# Altium schematic symbol library MicroController_DevBoard.SchLib: 2 symbols
Pins are listed as number, name and electrical type; pins without a type are passive.

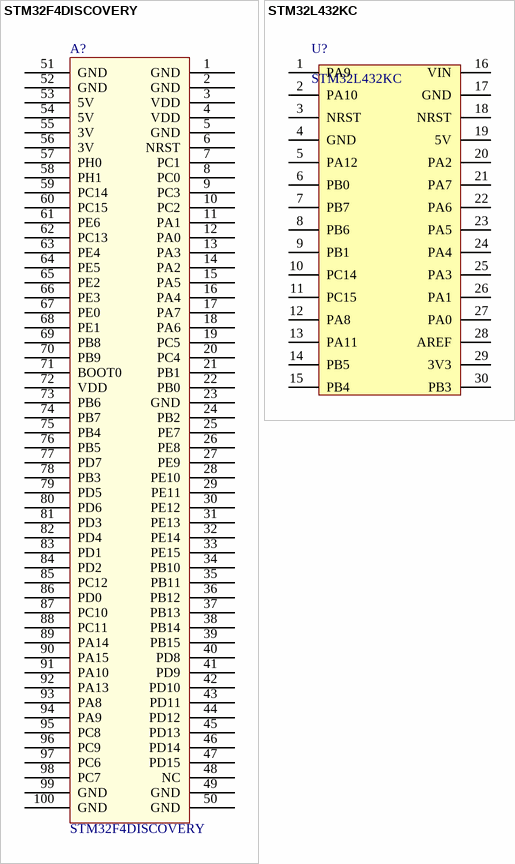
[diagram p0: symbols STM32F4DISCOVERY to STM32L432KC]

## STM32F4DISCOVERY
designator A?
footprint STM32F4DISCOVERY
pins: 1 GND, 2 GND, 3 VDD, 4 VDD, 5 GND, 6 NRST, 7 PC1, 8 PC0, 9 PC3, 10 PC2, 11 PA1, 12 PA0, 13 PA3, 14 PA2, 15 PA5, 16 PA4, 17 PA7, 18 PA6, 19 PC5, 20 PC4, 21 PB1, 22 PB0, 23 GND, 24 PB2, 25 PE7, 26 PE8, 27 PE9, 28 PE10, 29 PE11, 30 PE12, 31 PE13, 32 PE14, 33 PE15, 34 PB10, 35 PB11, 36 PB12, 37 PB13, 38 PB14, 39 PB15, 40 PD8, 41 PD9, 42 PD10, 43 PD11, 44 PD12, 45 PD13, 46 PD14, 47 PD15, 48 NC, 49 GND, 50 GND, 51 GND, 52 GND, 53 5V, 54 5V, 55 3V, 56 3V, 57 PH0, 58 PH1, 59 PC14, 60 PC15, 61 PE6, 62 PC13, 63 PE4, 64 PE5, 65 PE2, 66 PE3, 67 PE0, 68 PE1, 69 PB8, 70 PB9, 71 BOOT0, 72 VDD, 73 PB6, 74 PB7, 75 PB4, 76 PB5, 77 PD7, 78 PB3, 79 PD5, 80 PD6, 81 PD3, 82 PD4, 83 PD1, 84 PD2, 85 PC12, 86 PD0, 87 PC10, 88 PC11, 89 PA14, 90 PA15, 91 PA10, 92 PA13, 93 PA8, 94 PA9, 95 PC8, 96 PC9, 97 PC6, 98 PC7, 99 GND, 100 GND

## STM32L432KC
designator U?
NUCLEO - L432KC DevBoard
footprint STM32L432KC (NUCLEO-L432KC DevBoard)
pins: 1 PA9, 2 PA10, 3 NRST, 4 GND, 5 PA12, 6 PB0, 7 PB7, 8 PB6, 9 PB1, 10 PC14, 11 PC15, 12 PA8, 13 PA11, 14 PB5, 15 PB4, 16 VIN, 17 GND, 18 NRST, 19 5V, 20 PA2, 21 PA7, 22 PA6, 23 PA5, 24 PA4, 25 PA3, 26 PA1, 27 PA0, 28 AREF, 29 3V3, 30 PB3